# Altium footprint library nixie.PcbLib: 19 footprints (part 2 of 2)
Each footprint in its own frame and in the unit in brackets; x right, y up, seen from the top. Pads: shape width x height; smd on the part's side, far side on the other; paste and mask are expansions set on the pad; w line width, h text height; cw(c..) or ccw(c..) is an arc to the next point about the centre after c.
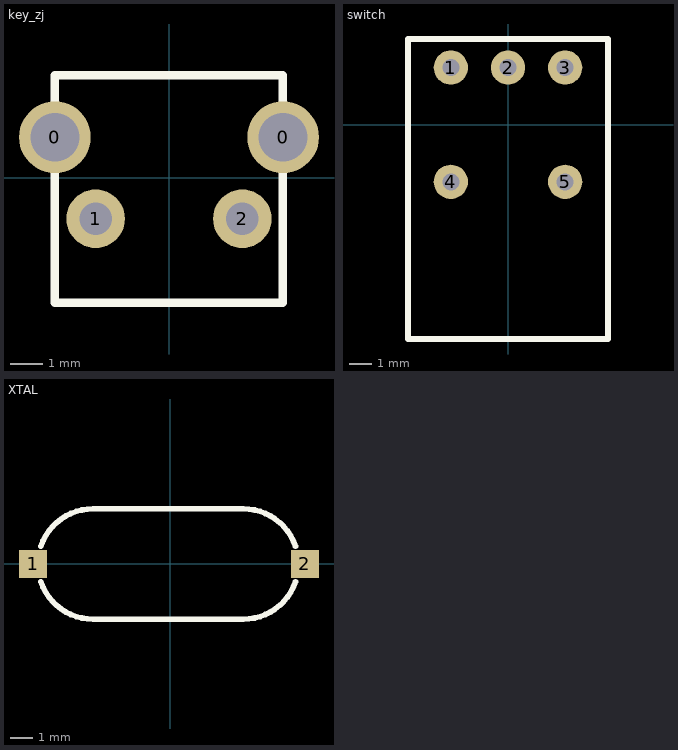
[diagram p1: the footprints below, top view; thin cyan lines are the x and y axes]

## key_zj [mm]
pads (4):
  round 2.2 hole 1.5: 0(-3.5,1.25) 0(3.5,1.25)
  round 1.8 hole 1: 1(-2.25,-1.25) 2(2.25,-1.25)
Top Overlay:
  lines w0.254: -3.5,-3.83 -3.5,2.52 -3.5,3.155 3.485,3.155 3.485,-3.83 -3.5,-3.83
3D body: height 7.45, standoff -3.8, extent -4.365,-5.651 4.476,2.549

## switch [mil]
pads (5):
  round 60 hole 30: 1(-100,100) 2(0,100) 3(100,100) 4(-100,-100) 5(100,-100)
Top Overlay:
  lines w10: -175,-375 175,-375 175,150 -175,150 -175,-375
3D body: height 216.54, standoff -129.92, extent -165.35,-595.37 165.35,110

## XTAL [mil]
pads (2):
  rect 50x50 smd: 1(-245,0) 2(240,0)
Top Overlay:
  lines w10: -230.92,-31.85 ccw(c-137.79,0) -137.79,-98.42 ; -230.92,31.85 cw(c-137.79,0) -137.79,98.43 ; -138,98.42 129.92,98.43 cw(c129.92,0) 223.05,31.85 ; -137.8,-98.43 129.92,-98.42 ccw(c129.92,0) 223.05,-31.85
3D body: height 169.29, standoff 0, extent -251.96,-95.07 251.97,95.08